# EAGLE library part MC1456 (library my_relai)
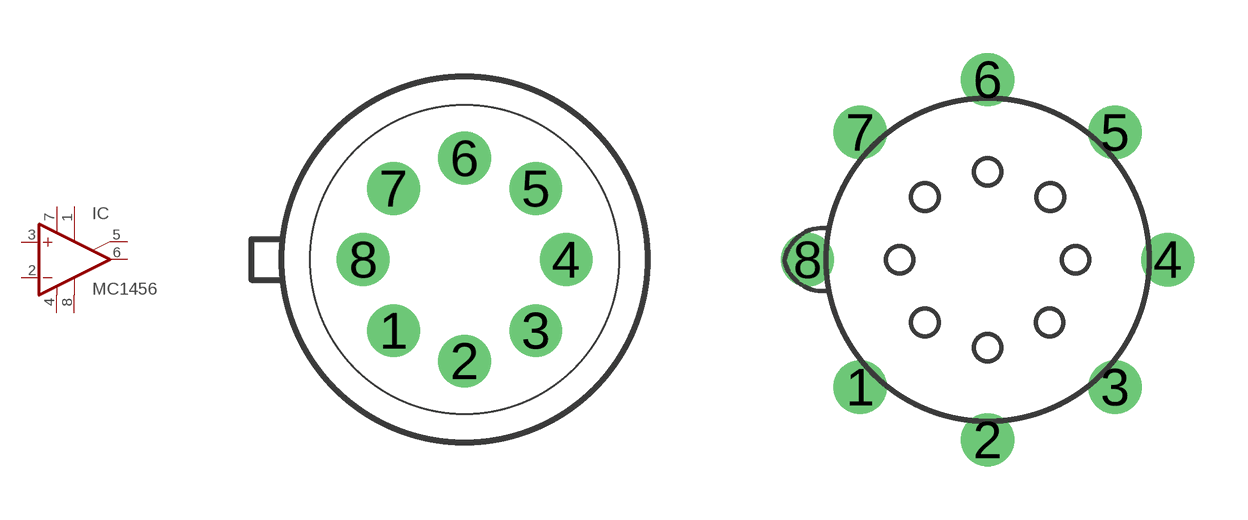
[diagram p8: symbol with the pads of TO99; footprints TO99, SOCKET_TO99]

Designator prefix IC

## MC1456*  [TO99]
1  ON1  pas
2  -IN  in
3  +IN  in
4  V-  pwr
5  ON2  pas
6  OUT  out
7  V+  pwr
8  NC  nc

## MC1456  [SOCKET_TO99]
Pads as for TO99

## Footprint TO99 (pad centres in mm)
Metal Can Package
drill 0.813: 1 -1.778,-1.778; 2 0,-2.54; 3 1.778,-1.778; 4 2.54,0; 5 1.778,1.778; 6 0,2.54; 7 -1.778,1.778; 8 -2.54,0

## Footprint SOCKET_TO99 (pad centres in mm)
drill 1: 1 -3.606,-3.606; 2 0,-5.1; 3 3.606,-3.606; 4 5.1,0; 5 3.606,3.606; 6 0,5.1; 7 -3.606,3.606; 8 -5.1,0